# EAGLE library part SIM7000E (library SIM7000E)
Multi-Band LTE-FDD and Dual-Band GSM/GPRS/EDGE module solution in a SMT type which supports LTE eMTC(CAT-M1) and NB-IoT up to 375kbps for downlink data transfer.
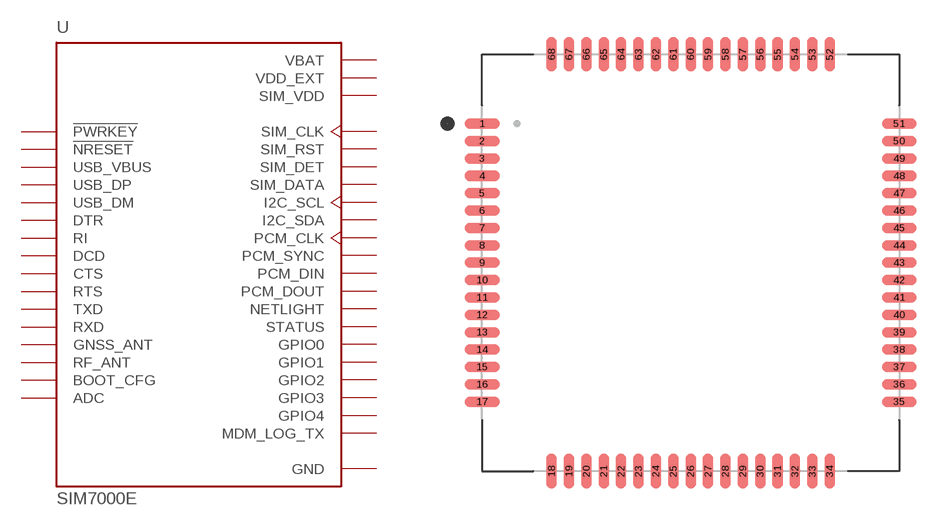
[diagram p0: symbol with the pads of SIMCON_SIM7000E; footprint SIMCON_SIM7000E]

Designator prefix U

## SIM7000E (Availability: Unavailable; Description: SIM7000E GSM/GPRS RF Arduino Platform Evaluation Expansion Board; MF: DFRobot; MP: SIM7000E; Package: Package Analog Devices; Price: None)  [SIMCON_SIM7000E]
1  !PWRKEY  in
2  GND  pwr
3  DTR  in
4  RI  out
5  DCD  out
6  BOOT_CFG  in
7  CTS  out
8  RTS  in
9  TXD  out
10  RXD  in
11  PCM_CLK  out
12  PCM_SYNC  out
13  PCM_DIN  in
14  PCM_DOUT  out
15  VDD_EXT  pwr
16  !NRESET  in
17  GND  pwr
18  GND  pwr
23  MDM_LOG_TX  out
24  USB_VBUS  in
25  ADC  in
27  USB_DP
28  USB_DM
29  GND  pwr
30  SIM_VDD  pwr
31  SIM_DATA
32  SIM_CLK  out
33  SIM_RST  out
34  SIM_DET  in
37  I2C_SDA
38  I2C_SCL  out
39  GND  pwr
45  GND  pwr
46  GND  pwr
48  GPIO4
49  GPIO1
50  GPIO0
52  NETLIGHT  out
53  GNSS_ANT  in
54  GND  pwr
55  VBAT  pwr
56  VBAT  pwr
57  VBAT  pwr
58  GND  pwr
59  GND  pwr
60  RF_ANT
61  GND  pwr
62  GND  pwr
63  GND  pwr
64  GND  pwr
65  GND  pwr
66  STATUS  out
67  GPIO2
68  GPIO3

## Footprint SIMCON_SIM7000E (pad centres in mm)
smd 2 x 0.6: 1 -12,8; 2 -12,7; 3 -12,6; 4 -12,5; 5 -12,4; 6 -12,3; 7 -12,2; 8 -12,1; 9 -12,0; 10 -12,-1; 11 -12,-2; 12 -12,-3; 13 -12,-4; 14 -12,-5; 15 -12,-6; 16 -12,-7; 17 -12,-8; 35 12,-8; 36 12,-7; 37 12,-6; 38 12,-5; 39 12,-4; 40 12,-3; 41 12,-2; 42 12,-1; 43 12,0; 44 12,1; 45 12,2; 46 12,3; 47 12,4; 48 12,5; 49 12,6; 50 12,7; 51 12,8
smd 0.6 x 2: 18 -8,-12; 19 -7,-12; 20 -6,-12; 21 -5,-12; 22 -4,-12; 23 -3,-12; 24 -2,-12; 25 -1,-12; 26 0,-12; 27 1,-12; 28 2,-12; 29 3,-12; 30 4,-12; 31 5,-12; 32 6,-12; 33 7,-12; 34 8,-12; 52 8,12; 53 7,12; 54 6,12; 55 5,12; 56 4,12; 57 3,12; 58 2,12; 59 1,12; 60 0,12; 61 -1,12; 62 -2,12; 63 -3,12; 64 -4,12; 65 -5,12; 66 -6,12; 67 -7,12; 68 -8,12